# EAGLE library part DIL8 (library ic-package)
Dual In Line / Socket
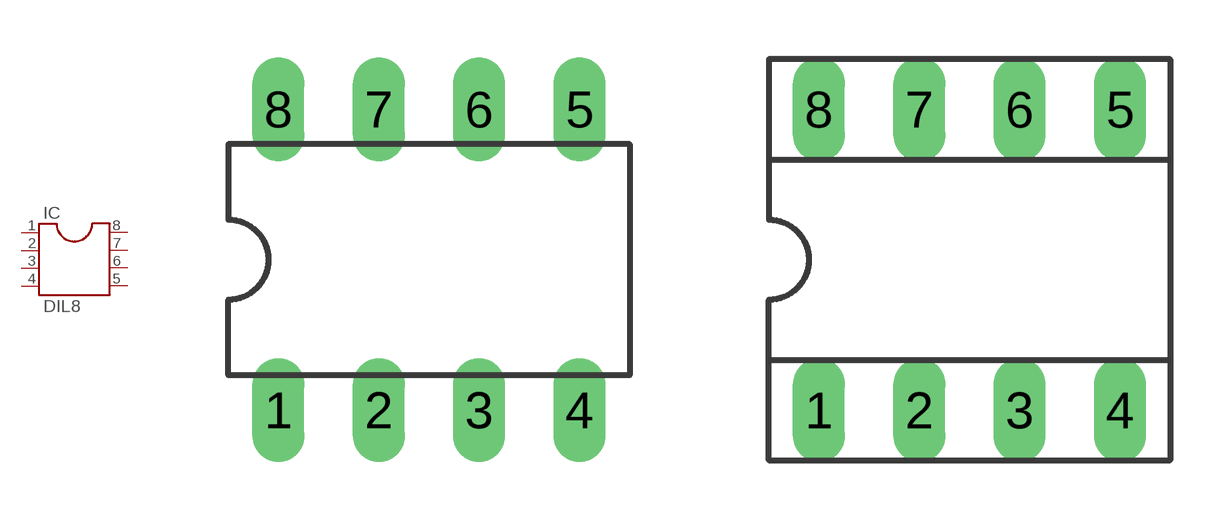
[diagram p1: symbol with the pads of DIL08; footprints DIL08, SOCKET-08]

Designator prefix IC

## DIL8  [DIL08]
1  1  pas
2  2  pas
3  3  pas
4  4  pas
5  5  pas
6  6  pas
7  7  pas
8  8  pas

## DIL8S  [SOCKET-08]
Pads as for DIL08

## DIL8SMD  [DIL8-SMD]
P$1  1  pas
P$2  2  pas
P$3  3  pas
P$4  4  pas
P$5  5  pas
P$6  6  pas
P$7  7  pas
P$8  8  pas

## Footprint DIL08 (pad centres in mm)
Dual In Line Package
drill 0.813 long: 1 -3.81,-3.81; 2 -1.27,-3.81; 3 1.27,-3.81; 4 3.81,-3.81; 5 3.81,3.81; 6 1.27,3.81; 7 -1.27,3.81; 8 -3.81,3.81

## Footprint SOCKET-08 (pad centres in mm)
Dual In Line Socket
drill 0.813 long: 1 -3.81,-3.81; 2 -1.27,-3.81; 3 1.27,-3.81; 4 3.81,-3.81; 5 3.81,3.81; 6 1.27,3.81; 7 -1.27,3.81; 8 -3.81,3.81

## Footprint DIL8-SMD (pad centres in mm)
smd 1 x 3.5: P$1 -3.91,-4.645; P$2 -1.37,-4.645; P$3 1.17,-4.645; P$4 3.71,-4.645; P$5 3.71,5.515; P$6 1.17,5.515; P$7 -1.37,5.515; P$8 -3.91,5.515